# Altium footprint library Flyback_PcbLib.PcbLib: 17 footprints (part 2 of 2)
Each footprint in its own frame and in the unit in brackets; x right, y up, seen from the top. Pads: shape width x height; smd on the part's side, far side on the other; paste and mask are expansions set on the pad; w line width, h text height; cw(c..) or ccw(c..) is an arc to the next point about the centre after c.
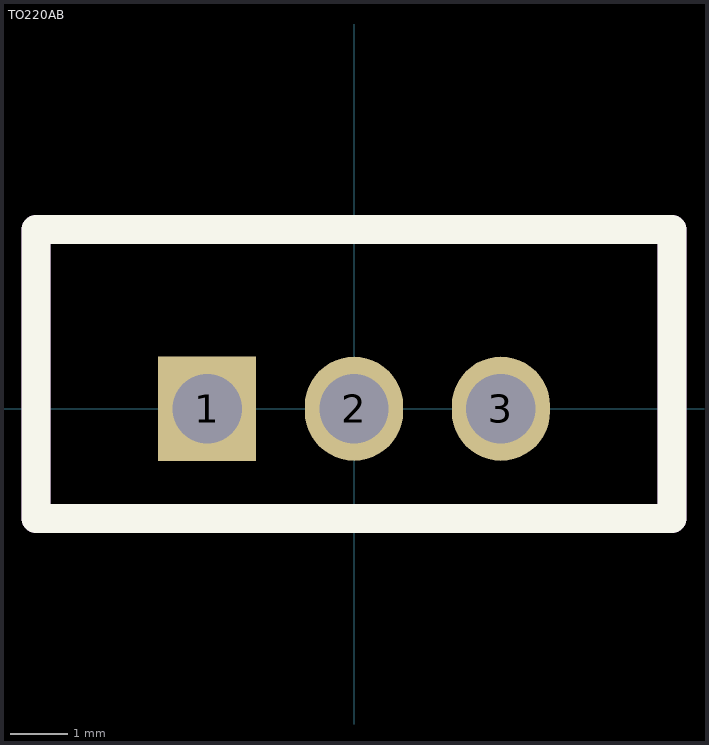
[diagram p1: the footprint, top view; thin cyan lines are the x and y axes]

## TO220AB [mm]
pads (3):
  rect 1.7x1.8 hole 1.2: 1(-2.54,0)
  oval 1.7x1.8 hole 1.2: 2(0,0) 3(2.54,0)
Top Overlay:
  lines w0.5: -5.5,-1.9 -5.5,3.1 5.5,3.1 5.5,-1.9 -5.5,-1.9
Mechanical 29:
  lines w0.5: -5.5,-1.9 -5.5,3.1 5.5,3.1 5.5,-1.9 -5.5,-1.9
  text "'.Designator'" at -3.3,-1.1 h1
3D body "stps20h100ct.stp": height 22.62, standoff -8.37, extent -5.335,-1.608 5.335,3.222